# EAGLE library part TSL2561 (library Sensors)
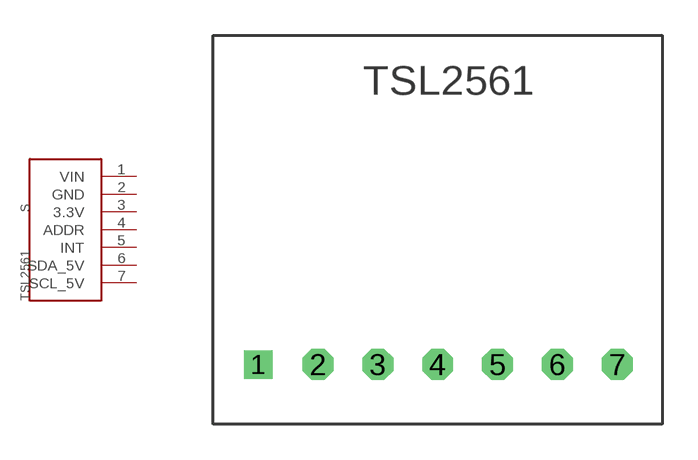
[diagram p0: symbol with the pads of TSL2561; footprint TSL2561]

Designator prefix S

## TSL2561  [TSL2561]
1  VIN
2  GND
3  3.3V
4  ADDR
5  INT
6  SDA_5V
7  SCL_5V

## Footprint TSL2561 (pad centres in mm)
drill 0.7 square: 1 1.905,2.54
drill 0.8 octagon: 2 4.445,2.54; 3 6.985,2.54; 4 9.525,2.54; 5 12.065,2.54; 6 14.605,2.54; 7 17.145,2.54